# Altium schematic symbol library 74xx.SchLib: 276 symbols (part 3 of 3)
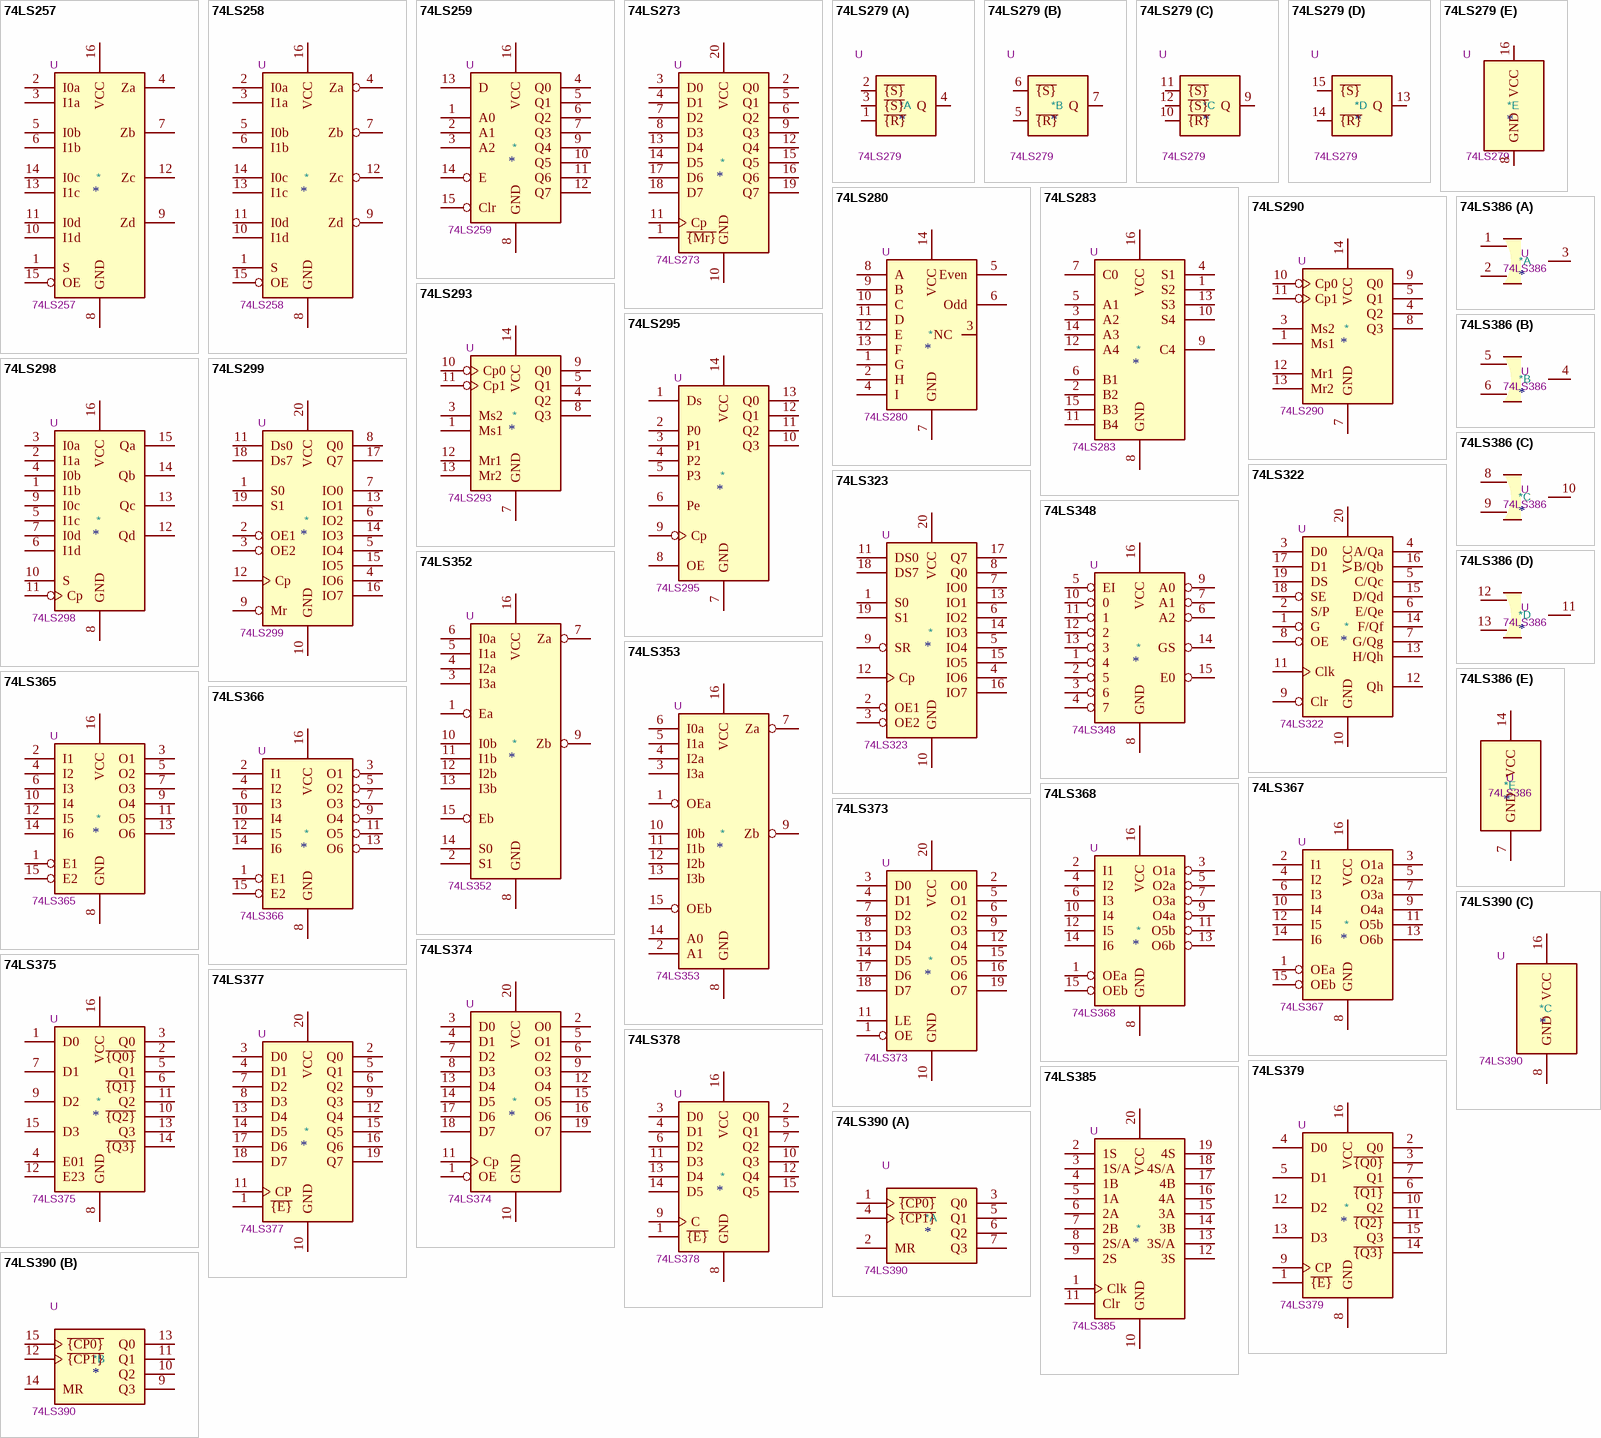
[diagram p16: symbols 74LS257 to 74LS390]

## 74LS375
designator *  value 74LS375  Reference: U
4-bit Latch; ki_keywords: TTL DFF DFF4 Latch; ki_fp_filters: DIP?16*; Datasheet: http://www.ti.com/lit/gpn/sn74LS375; Description_: 4-bit Latch
pins: 1 D0, 2 ~{{Q0}}, 3 Q0, 4 E01, 5 Q1, 6 ~{{Q1}}, 7 D1, 8 GND, 9 D2, 10 ~{{Q2}}, 11 Q2, 12 E23, 13 Q3, 14 ~{{Q3}}, 15 D3, 16 VCC

## 74LS377
designator *  value 74LS377  Reference: U
8-bit Register; ki_keywords: TTL REG DFF DFF8; ki_fp_filters: DIP?20*; Datasheet: http://www.ti.com/lit/gpn/sn74LS377; Description_: 8-bit Register
pins: 1 ~{{E}}, 2 Q0, 3 D0, 4 D1, 5 Q1, 6 Q2, 7 D2, 8 D3, 9 Q3, 10 GND, 11 CP, 12 Q4, 13 D4, 14 D5, 15 Q5, 16 Q6, 17 D6, 18 D7, 19 Q7, 20 VCC

## 74LS378
designator *  value 74LS378  Reference: U
6-bit Register; ki_keywords: TTL REG DFF DFF6; ki_fp_filters: DIP?16*; Datasheet: http://www.ti.com/lit/gpn/sn74LS378; Description_: 6-bit Register
pins: 1 ~{{E}}, 2 Q0, 3 D0, 4 D1, 5 Q1, 6 D2, 7 Q2, 8 GND, 9 C, 10 Q3, 11 D3, 12 Q4, 13 D4, 14 D5, 15 Q5, 16 VCC

## 74LS379
designator *  value 74LS379  Reference: U
4-bit Register; ki_keywords: TTL REG DFF DFF4; ki_fp_filters: DIP?16*; Datasheet: http://www.ti.com/lit/gpn/sn74LS379; Description_: 4-bit Register
pins: 1 ~{{E}}, 2 Q0, 3 ~{{Q0}}, 4 D0, 5 D1, 6 ~{{Q1}}, 7 Q1, 8 GND, 9 CP, 10 Q2, 11 ~{{Q2}}, 12 D2, 13 D3, 14 ~{{Q3}}, 15 Q3, 16 VCC

## 74LS385
designator *  value 74LS385  Reference: U
Quad serial Adder; ki_keywords: TTL ADD Arith ALU; ki_fp_filters: DIP?20*; Datasheet: http://www.ti.com/lit/gpn/sn74LS385; Description_: Quad serial Adder
pins: 1 Clk, 2 1S, 3 1S/A, 4 1B, 5 1A, 6 2A, 7 2B, 8 2S/A, 9 2S, 10 GND, 11 Clr, 12 3S, 13 3S/A, 14 3B, 15 3A, 16 4A, 17 4B, 18 4S/A, 19 4S, 20 VCC

## 74LS386
designator *  value 74LS386  Reference: U
Quad 2-input XOR; ki_keywords: TTL XOR2; ki_fp_filters: DIP*W7.62mm*; Datasheet: http://www.ti.com/lit/gpn/sn74LS386; Description_: Quad 2-input XOR
part A pins: 1, 2, 3
part B pins: 4, 5, 6
part C pins: 8, 9, 10
part D pins: 11, 12, 13
part E pins: 7 GND, 14 VCC

## 74LS390
designator *  value 74LS390  Reference: U
Dual BCD 4-bit counter; ki_keywords: TTL CNT CNT4; ki_fp_filters: DIP?16* SOIC*3.9x9.9mm*P1.27mm*; Datasheet: http://www.ti.com/lit/gpn/sn74LS390; Description_: Dual BCD 4-bit counter
part A pins: 1 ~{{CP0}}, 2 MR, 3 Q0, 4 ~{{CP1}}, 5 Q1, 6 Q2, 7 Q3
part B pins: 9 Q3, 10 Q2, 11 Q1, 12 ~{{CP1}}, 13 Q0, 14 MR, 15 ~{{CP0}}
part C pins: 8 GND, 16 VCC

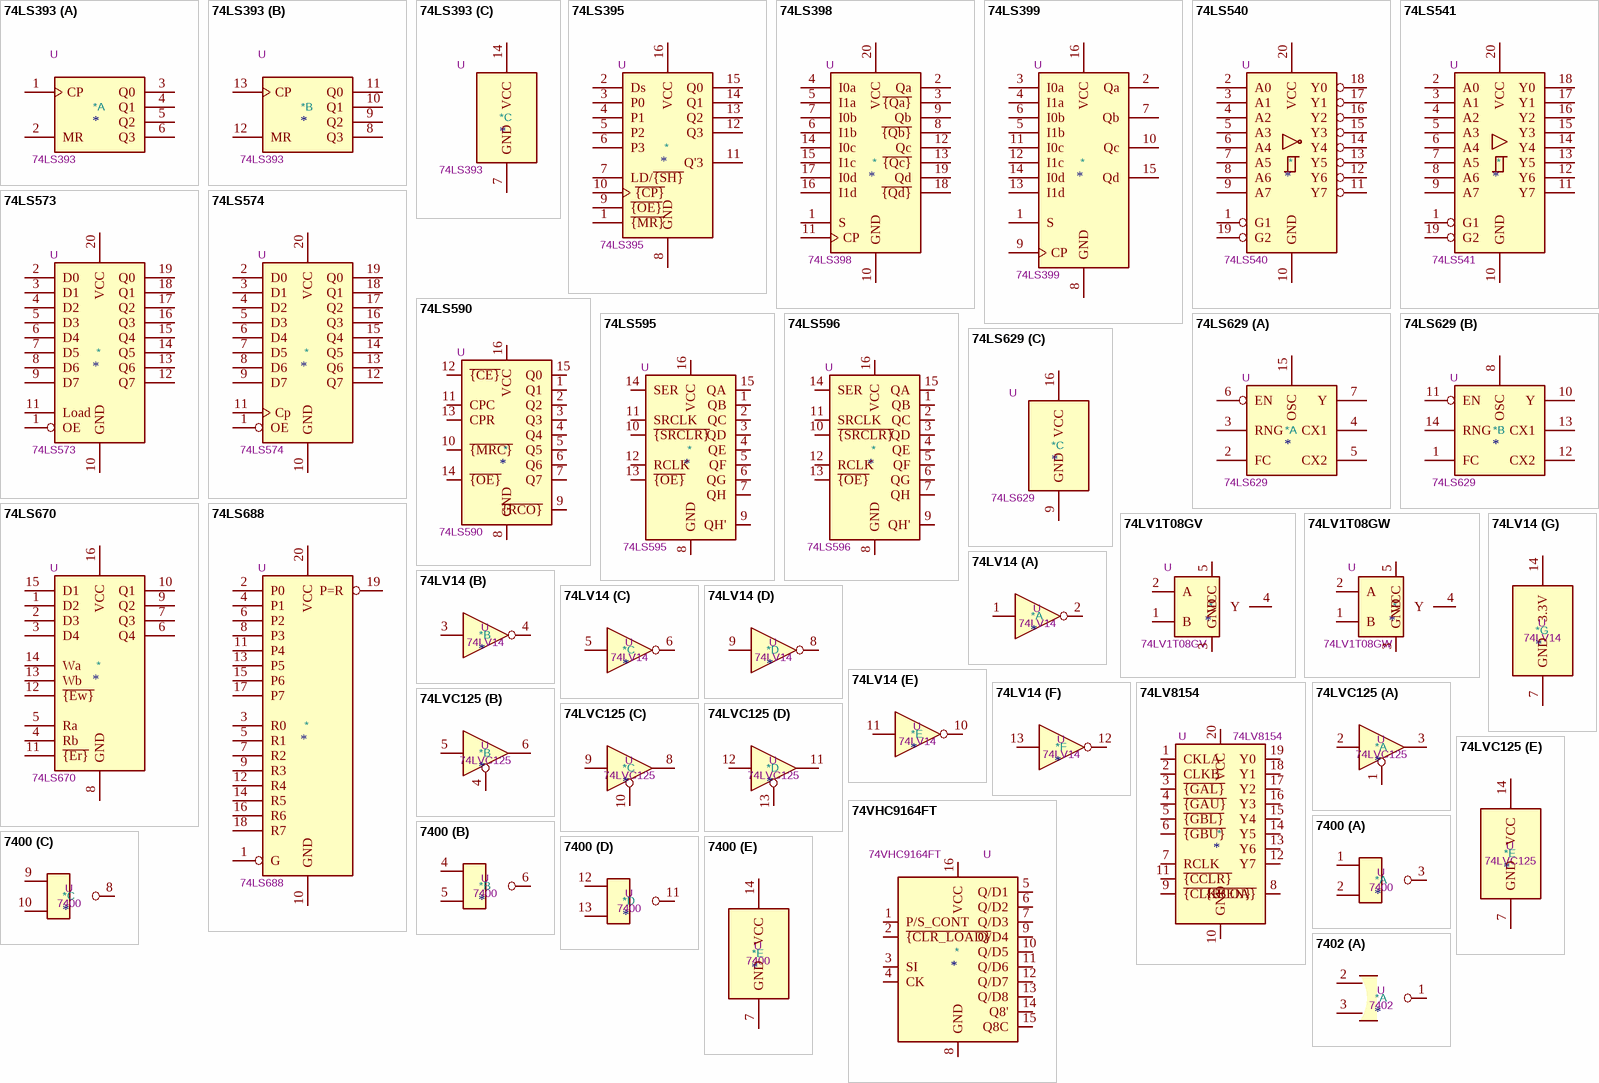
[diagram p13: symbols 74LS393 to 7402]

## 74LS393
designator *  value 74LS393  Reference: U
Dual BCD 4-bit counter; ki_keywords: TTL CNT CNT4; ki_fp_filters: DIP*W7.62mm*; Datasheet: 74xx\74LS393.pdf; Description_: Dual BCD 4-bit counter
part A pins: 1 CP, 2 MR, 3 Q0, 4 Q1, 5 Q2, 6 Q3
part B pins: 8 Q3, 9 Q2, 10 Q1, 11 Q0, 12 MR, 13 CP
part C pins: 7 GND, 14 VCC

## 74LS395
designator *  value 74LS395  Reference: U
4-bit universal shift register, 3-state outputs; ki_keywords: TTL SR SR4 REG 3State; ki_fp_filters: DIP?16*; Datasheet: http://www.ti.com/lit/gpn/sn74LS395; Description_: 4-bit universal shift register, 3-state outputs
pins: 1 ~{{MR}}, 2 Ds, 3 P0, 4 P1, 5 P2, 6 P3, 7 LD/~{{SH}}, 8 GND, 9 ~{{OE}}, 10 ~{{CP}}, 11 Q'3, 12 Q3, 13 Q2, 14 Q1, 15 Q0, 16 VCC

## 74LS398
designator *  value 74LS398  Reference: U
Quad 2 to 1 line Multiplexer, 3-state outputs; ki_keywords: TTL MUX MUX2 3State; ki_fp_filters: DIP?20*; Datasheet: http://www.ti.com/lit/gpn/sn74LS398; Description_: Quad 2 to 1 line Multiplexer, 3-state outputs
pins: 1 S, 2 Qa, 3 ~{{Qa}}, 4 I0a, 5 I1a, 6 I1b, 7 I0b, 8 ~{{Qb}}, 9 Qb, 10 GND, 11 CP, 12 Qc, 13 ~{{Qc}}, 14 I0c, 15 I1c, 16 I1d, 17 I0d, 18 ~{{Qd}}, 19 Qd, 20 VCC

## 74LS399
designator *  value 74LS399  Reference: U
Quad 2 to 1 line multiplexer with storage; ki_keywords: TTL MUX MUX2; ki_fp_filters: DIP?16*; Datasheet: http://www.ti.com/lit/gpn/sn74LS399; Description_: Quad 2 to 1 line multiplexer with storage
pins: 1 S, 2 Qa, 3 I0a, 4 I1a, 5 I1b, 6 I0b, 7 Qb, 8 GND, 9 CP, 10 Qc, 11 I0c, 12 I1c, 13 I1d, 14 I0d, 15 Qd, 16 VCC

## 74LS540
designator *  value 74LS540  Reference: U
8-bit Buffer/Line driver Inverter, 3-state outputs; ki_keywords: BUFFER BUS TTL 3State; ki_fp_filters: DIP?20*; Datasheet: http://www.ti.com/lit/gpn/sn74LS540; Description_: 8-bit Buffer/Line driver Inverter, 3-state outputs
pins: 1 G1, 2 A0, 3 A1, 4 A2, 5 A3, 6 A4, 7 A5, 8 A6, 9 A7, 10 GND, 11 Y7, 12 Y6, 13 Y5, 14 Y4, 15 Y3, 16 Y2, 17 Y1, 18 Y0, 19 G2, 20 VCC

## 74LS541
designator *  value 74LS541  Reference: U
8-bit Buffer/Line Driver 3-state outputs; ki_keywords: TTL BUFFER 3State BUS; ki_fp_filters: DIP?20*; Datasheet: http://www.ti.com/lit/gpn/sn74LS541; Description_: 8-bit Buffer/Line Driver 3-state outputs
pins: 1 G1, 2 A0, 3 A1, 4 A2, 5 A3, 6 A4, 7 A5, 8 A6, 9 A7, 10 GND, 11 Y7, 12 Y6, 13 Y5, 14 Y4, 15 Y3, 16 Y2, 17 Y1, 18 Y0, 19 G2, 20 VCC

## 74LS573
designator *  value 74LS573  Reference: U
8-bit Latch 3-state outputs; ki_keywords: TTL DFF DFF8 LATCH 3State; ki_fp_filters: DIP?20*; Datasheet: 74xx/74hc573.pdf; Description_: 8-bit Latch 3-state outputs
pins: 1 OE, 2 D0, 3 D1, 4 D2, 5 D3, 6 D4, 7 D5, 8 D6, 9 D7, 10 GND, 11 Load, 12 Q7, 13 Q6, 14 Q5, 15 Q4, 16 Q3, 17 Q2, 18 Q1, 19 Q0, 20 VCC

## 74LS574
designator *  value 74LS574  Reference: U
8-bit Register, 3-state outputs; ki_keywords: TTL REG DFF DFF8 3State; ki_fp_filters: DIP?20*; Datasheet: http://www.ti.com/lit/gpn/sn74LS574; Description_: 8-bit Register, 3-state outputs
pins: 1 OE, 2 D0, 3 D1, 4 D2, 5 D3, 6 D4, 7 D5, 8 D6, 9 D7, 10 GND, 11 Cp, 12 Q7, 13 Q6, 14 Q5, 15 Q4, 16 Q3, 17 Q2, 18 Q1, 19 Q0, 20 VCC

## 74LS590
designator *  value 74LS590  Reference: U
8-bit Binary Counter with Output Register 3-State Outputs, DIP-16/SOIC-16/SOIC-16W; ki_keywords: TTL Counter 3State; ki_fp_filters: DIP*W7.62mm* SOIC*3.9x9.9mm*P1.27mm* TSSOP*4.4x5mm*P0.65mm* SOIC*5.3x10.2mm*P1.27mm* SOIC*7.5x10.3mm*P1.27mm*; Datasheet: http://www.ti.com/lit/gpn/sn74ls590; Description_: 8-bit Binary Counter with Output Register 3-State Outputs, DIP-16/SOIC-16/SOIC-16W
pins: 1 Q1, 2 Q2, 3 Q3, 4 Q4, 5 Q5, 6 Q6, 7 Q7, 8 GND, 9 ~{{RCO}}, 10 ~{{MRC}}, 11 CPC, 12 ~{{CE}}, 13 CPR, 14 ~{{OE}}, 15 Q0, 16 VCC

## 74LS595
designator *  value 74LS595  Reference: U
8-bit serial in/out Shift Register 3-State Outputs; ki_keywords: TTL SR 3State; ki_fp_filters: DIP*W7.62mm* SOIC*3.9x9.9mm*P1.27mm* TSSOP*4.4x5mm*P0.65mm* SOIC*5.3x10.2mm*P1.27mm* SOIC*7.5x10.3mm*P1.27mm*; Datasheet: http://www.ti.com/lit/gpn/sn74ls595; Description_: 8-bit serial in/out Shift Register 3-State Outputs
pins: 1 QB, 2 QC, 3 QD, 4 QE, 5 QF, 6 QG, 7 QH, 8 GND, 9 QH', 10 ~{{SRCLR}}, 11 SRCLK, 12 RCLK, 13 ~{{OE}}, 14 SER, 15 QA, 16 VCC

## 74LS596
designator *  value 74LS596  Reference: U
8-bit serial in/out Shift Register Open Collector outputs; ki_keywords: HCMOS SR OpenCollector; ki_fp_filters: DIP*W7.62mm* SOIC*3.9x9.9mm*P1.27mm* TSSOP*4.4x5mm*P0.65mm* SOIC*5.3x10.2mm*P1.27mm* SOIC*7.5x10.3mm*P1.27mm*; Datasheet: http://www.ti.com/lit/gpn/sn74ls596; Description_: 8-bit serial in/out Shift Register Open Collector outputs
pins: 1 QB, 2 QC, 3 QD, 4 QE, 5 QF, 6 QG, 7 QH, 8 GND, 9 QH', 10 ~{{SRCLR}}, 11 SRCLK, 12 RCLK, 13 ~{{OE}}, 14 SER, 15 QA, 16 VCC

## 74LS629
designator *  value 74LS629  Reference: U
dual voltage-controlled oscillator, enable control, range control; ki_keywords: VCO; ki_fp_filters: DIP?16*; Datasheet: http://www.ti.com/lit/gpn/sn74LS629; Description_: dual voltage-controlled oscillator, enable control, range control
part A pins: 2 FC, 3 RNG, 4 CX1, 5 CX2, 6 EN, 7 Y, 15 OSC
part B pins: 1 FC, 8 OSC, 10 Y, 11 EN, 12 CX2, 13 CX1, 14 RNG
part C pins: 9 GND, 16 VCC

## 74LS670
designator *  value 74LS670  Reference: U
4 x 4 Register Files 3-State Outputs; ki_keywords: TTL Register 3State; ki_fp_filters: DIP?16*; Datasheet: http://www.ti.com/lit/gpn/sn74LS670; Description_: 4 x 4 Register Files 3-State Outputs
pins: 1 D2, 2 D3, 3 D4, 4 Rb, 5 Ra, 6 Q4, 7 Q3, 8 GND, 9 Q2, 10 Q1, 11 ~{{Er}}, 12 ~{{Ew}}, 13 Wb, 14 Wa, 15 D1, 16 VCC

## 74LS688
designator *  value 74LS688  Reference: U
8-bit magnitude comparator; ki_keywords: TTL DECOD Arith; ki_fp_filters: DIP?20* SOIC?20* SO?20* TSSOP?20*; Datasheet: http://www.ti.com/lit/gpn/sn74LS688; Description_: 8-bit magnitude comparator
pins: 1 G, 2 P0, 3 R0, 4 P1, 5 R1, 6 P2, 7 R2, 8 P3, 9 R3, 10 GND, 11 P4, 12 R4, 13 P5, 14 R5, 15 P6, 16 R6, 17 P7, 18 R7, 19 P=R, 20 VCC

## 74LV1T08GV
designator *  value 74LV1T08GV  Reference: U
2-input single supply translating AND gate, SC-74A-5; ki_keywords: Single AND Gate voltage translator; ki_fp_filters: *SC*74A*; Footprint: Package_TO_SOT_SMD:SC-74A-5_1.55x2.9mm_P0.95mm; Datasheet: https://assets.nexperia.com/documents/data-sheet/74LV1T08.pdf; Description_: 2-input single supply translating AND gate, SC-74A-5
pins: 1 B, 2 A, 3 GND, 4 Y, 5 VCC

## 74LV1T08GW
designator *  value 74LV1T08GW  Reference: U
2-input single supply translating AND gate, SOT-353; ki_keywords: Single AND Gate voltage translator; ki_fp_filters: SOT*353*; Footprint: Package_TO_SOT_SMD:SOT-353_SC-70-5; Datasheet: https://assets.nexperia.com/documents/data-sheet/74LV1T08.pdf; Description_: 2-input single supply translating AND gate, SOT-353
pins: 1 B, 2 A, 3 GND, 4 Y, 5 VCC

## 74LV14
designator *  value 74LV14  Reference: U
Hex Inverter; ki_keywords: TTL not inv; ki_fp_filters: DIP*W7.62mm*; Datasheet: http://www.ti.com/lit/gpn/sn74LV14; Description_: Hex Inverter
part A pins: 1, 2
part B pins: 3, 4
part C pins: 5, 6
part D pins: 8, 9
part E pins: 10, 11
part F pins: 12, 13
part G pins: 7 GND, 14 3.3V

## 74LV8154
designator *  value 74LV8154  Reference: U
Dual 16-bit binary counter; ki_keywords: counter binary; ki_fp_filters: TSSOP*4.4x6.5mm*P0.65mm* DIP*W7.62mm*; Datasheet: http://www.ti.com/lit/ds/symlink/sn74lv8154.pdf; Description_: Dual 16-bit binary counter
pins: 1 CKLA, 2 CLKB, 3 ~{{GAL}}, 4 ~{{GAU}}, 5 ~{{GBL}}, 6 ~{{GBU}}, 7 RCLK, 8 ~{{RCOA}}, 9 ~{{CLKBEN}}, 10 GND, 11 ~{{CCLR}}, 12 Y7, 13 Y6, 14 Y5, 15 Y4, 16 Y3, 17 Y2, 18 Y1, 19 Y0, 20 VCC

## 74LVC125
designator *  value 74LVC125  Reference: U
Quad buffer 3-State outputs; ki_keywords: TTL buffer 3State; ki_fp_filters: DIP*W7.62mm*; Datasheet: http://www.ti.com/lit/gpn/sn74LVC125; Description_: Quad buffer 3-State outputs
part A pins: 1, 2, 3
part B pins: 4, 5, 6
part C pins: 8, 9, 10
part D pins: 11, 12, 13
part E pins: 7 GND, 14 VCC

## 74VHC9164FT
designator *  value 74VHC9164FT  Reference: U
8-bit Universal Shift Register, 2V to 5.5V, TSSOP-16; ki_keywords: shift register universal serial parallel; ki_fp_filters: TSSOP*4.4x5mm*P0.65mm*; Footprint: Package_SO:TSSOP-16_4.4x5mm_P0.65mm; Datasheet: https://toshiba.semicon-storage.com/info/docget.jsp?did=15655&prodName=74VHC9164FT; Description_: 8-bit Universal Shift Register, 2V to 5.5V, TSSOP-16
pins: 1 P/S_CONT, 2 ~{{CLR_LOAD}}, 3 SI, 4 CK, 5 Q/D1, 6 Q/D2, 7 Q/D3, 8 GND, 9 Q/D4, 10 Q/D5, 11 Q/D6, 12 Q/D7, 13 Q/D8, 14 Q8', 15 Q8C, 16 VCC

## 7400
designator *  value 7400  Reference: U
quad 2-input NAND gate; ki_keywords: TTL nand 2-input; ki_fp_filters: DIP*W7.62mm* SO14*; Datasheet: http://www.ti.com/lit/gpn/sn7400; Description_: quad 2-input NAND gate
part A pins: 1, 2, 3
part B pins: 4, 5, 6
part C pins: 8, 9, 10
part D pins: 11, 12, 13
part E pins: 7 GND, 14 VCC
1 alternate drawing of the same symbol

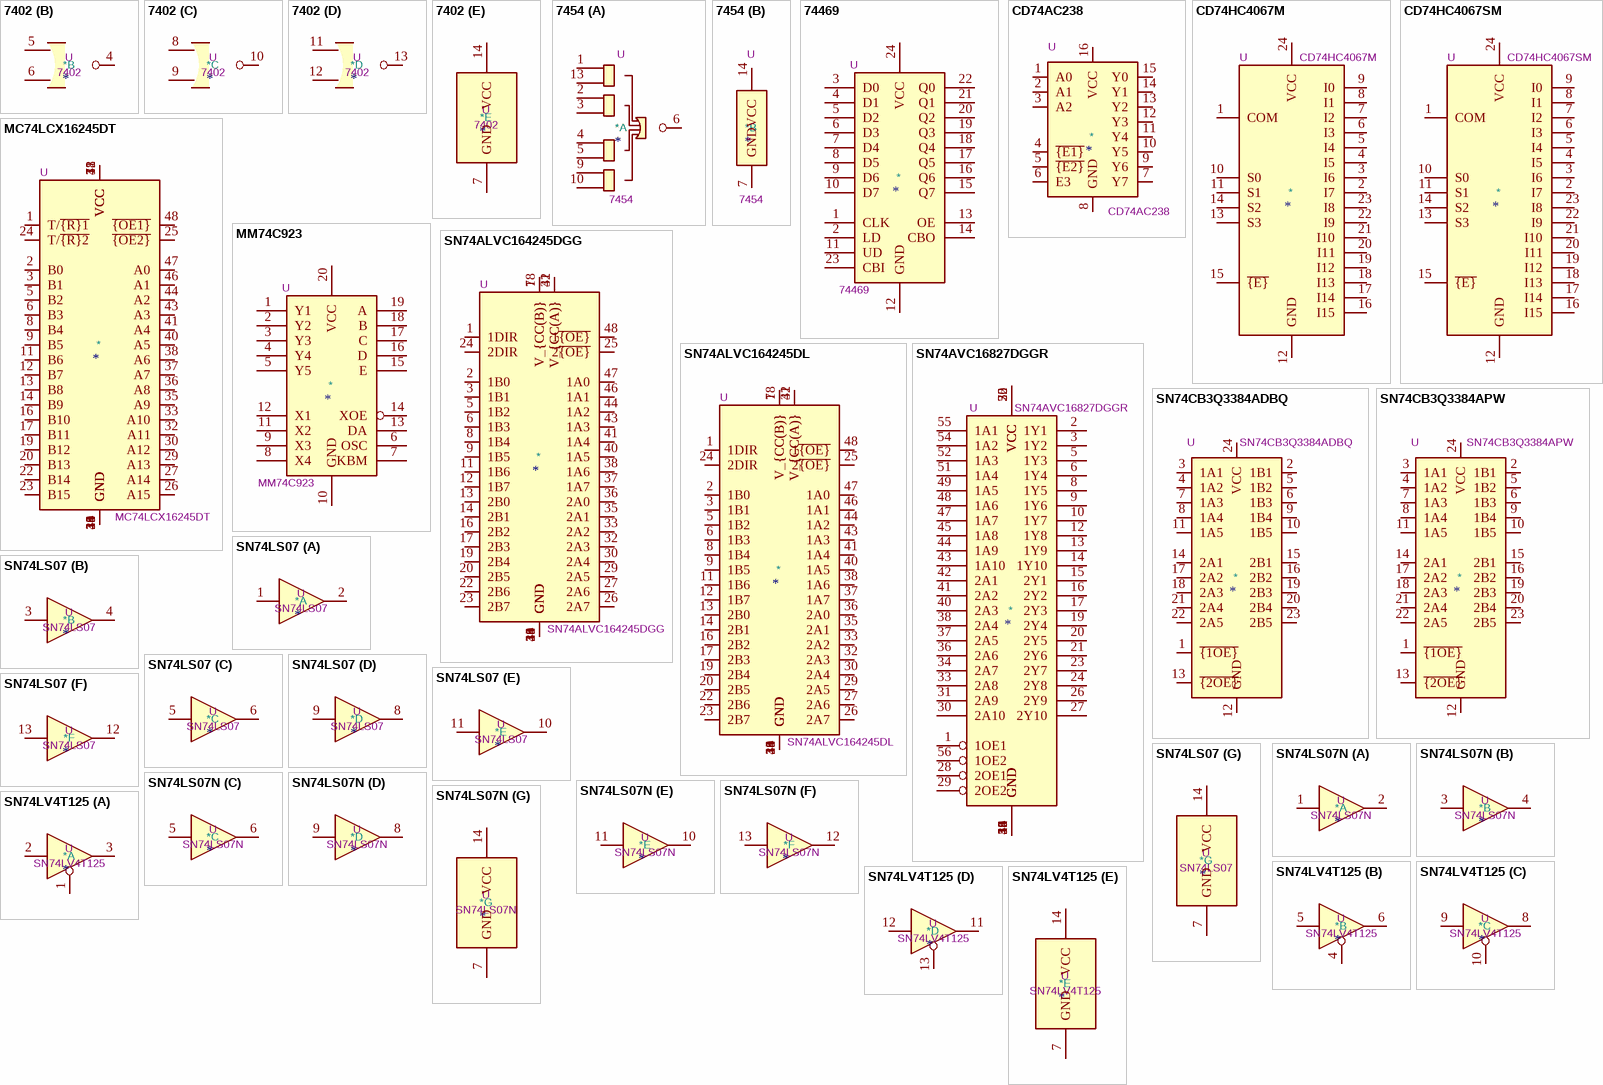
[diagram p14: symbols 7402 to SN74LV4T125]

## 7402
designator *  value 7402  Reference: U
quad 2-input NOR gate; ki_keywords: TTL Nor2; ki_fp_filters: SO14* DIP*W7.62mm*; Datasheet: http://www.ti.com/lit/gpn/sn7402; Description_: quad 2-input NOR gate
part A pins: 1, 2, 3
part B pins: 4, 5, 6
part C pins: 8, 9, 10
part D pins: 11, 12, 13
part E pins: 7 GND, 14 VCC
1 alternate drawing of the same symbol

## 7454
designator *  value 7454  Reference: U
And-Nor (Y = /(AB + CD + EF + GH) ), DIP-14; ki_keywords: TTL ANDNOR; ki_fp_filters: DIP*W7.62mm*; Datasheet: https://www.ti.com/lit/ds/symlink/sn54ls54.pdf; Description_: And-Nor (Y = /(AB + CD + EF + GH) ), DIP-14
part A pins: 1, 2, 3, 4, 5, 6, 9, 10, 13
part B pins: 7 GND, 14 VCC

## 74469
designator *  value 74469  Reference: U
8-bit synchronous up/down counter, parallel load and hold capability (obsolete); ki_fp_filters: DIP?24*; Datasheet: http://www.ti.com/lit/gpn/sn74469; Description_: 8-bit synchronous up/down counter, parallel load and hold capability (obsolete); ki_keywords: counter
pins: 1 CLK, 2 LD, 3 D0, 4 D1, 5 D2, 6 D3, 7 D4, 8 D5, 9 D6, 10 D7, 11 UD, 12 GND, 13 OE, 14 CBO, 15 Q7, 16 Q6, 17 Q5, 18 Q4, 19 Q3, 20 Q2, 21 Q1, 22 Q0, 23 CBI, 24 VCC

## CD74AC238
designator *  value CD74AC238  Reference: U
3-to-8 line decoder/multiplexer, SOIC-16; ki_keywords: demux; ki_fp_filters: SOIC*3.9x9.9mm*P1.27mm*; Datasheet: https://www.ti.com/lit/ds/symlink/cd74ac238.pdf; Description_: 3-to-8 line decoder/multiplexer, SOIC-16
pins: 1 A0, 2 A1, 3 A2, 4 ~{{E1}}, 5 ~{{E2}}, 6 E3, 7 Y7, 8 GND, 9 Y6, 10 Y5, 11 Y4, 12 Y3, 13 Y2, 14 Y1, 15 Y0, 16 VCC

## CD74HC4067M
designator *  value CD74HC4067M  Reference: U
High-Speed CMOS Logic 16-Channel Analog Multiplexer/Demultiplexer, SOIC-24; ki_keywords: multiplexer demultiplexer mux demux; ki_fp_filters: SOIC*W*7.5x15.4mm*P1.27mm*; Footprint: Package_SO:SOIC-24W_7.5x15.4mm_P1.27mm; Datasheet: http://www.ti.com/lit/ds/symlink/cd74hc4067.pdf; Description_: High-Speed CMOS Logic 16-Channel Analog Multiplexer/Demultiplexer, SOIC-24
pins: 1 COM, 2 I7, 3 I6, 4 I5, 5 I4, 6 I3, 7 I2, 8 I1, 9 I0, 10 S0, 11 S1, 12 GND, 13 S3, 14 S2, 15 ~{{E}}, 16 I15, 17 I14, 18 I13, 19 I12, 20 I11, 21 I10, 22 I9, 23 I8, 24 VCC

## CD74HC4067SM
designator *  value CD74HC4067SM  Reference: U
High-Speed CMOS Logic 16-Channel Analog Multiplexer/Demultiplexer, SSOP-24; ki_keywords: multiplexer demultiplexer mux demux; ki_fp_filters: SSOP*5.3x8.2mm*P0.65mm*; Footprint: Package_SO:SSOP-24_5.3x8.2mm_P0.65mm; Datasheet: http://www.ti.com/lit/ds/symlink/cd74hc4067.pdf; Description_: High-Speed CMOS Logic 16-Channel Analog Multiplexer/Demultiplexer, SSOP-24
pins: 1 COM, 2 I7, 3 I6, 4 I5, 5 I4, 6 I3, 7 I2, 8 I1, 9 I0, 10 S0, 11 S1, 12 GND, 13 S3, 14 S2, 15 ~{{E}}, 16 I15, 17 I14, 18 I13, 19 I12, 20 I11, 21 I10, 22 I9, 23 I8, 24 VCC

## MC74LCX16245DT
designator *  value MC74LCX16245DT  Reference: U
Low Voltage 16-Bit Bidirectional Transceiver with 5V Tolerant Inputs and Outputs, TSSOP-48; ki_fp_filters: TSSOP*6.1x12.5mm*P0.5mm*; Footprint: Package_SO:TSSOP-48_6.1x12.5mm_P0.5mm; Datasheet: https://www.onsemi.com/pdf/datasheet/mc74lcx16245-d.pdf; Description_: Low Voltage 16-Bit Bidirectional Transceiver with 5V Tolerant Inputs and Outputs, TSSOP-48; ki_keywords: transceiver
pins: 1 T/~{{R}1}, 2 B0, 3 B1, 4 GND, 5 B2, 6 B3, 7 VCC, 8 B4, 9 B5, 10 GND, 11 B6, 12 B7, 13 B8, 14 B9, 15 GND, 16 B10, 17 B11, 18 VCC, 19 B12, 20 B13, 21 GND, 22 B14, 23 B15, 24 T/~{{R}2}, 25 ~{{OE2}}, 26 A15, 27 A14, 28 GND, 29 A13, 30 A12, 31 VCC, 32 A11, 33 A10, 34 GND, 35 A9, 36 A8, 37 A7, 38 A6, 39 GND, 40 A5, 41 A4, 42 VCC, 43 A3, 44 A2, 45 GND, 46 A1, 47 A0, 48 ~{{OE1}}

## MM74C923
designator *  value MM74C923  Reference: U
20-key encoder; ki_fp_filters: DIP?20*; Datasheet: http://www.ti.com/lit/gpn/snMM74C923; Description_: 20-key encoder; ki_keywords: encoder
pins: 1 Y1, 2 Y2, 3 Y3, 4 Y4, 5 Y5, 6 OSC, 7 KBM, 8 X4, 9 X3, 10 GND, 11 X2, 12 X1, 13 DA, 14 XOE, 15 E, 16 D, 17 C, 18 B, 19 A, 20 VCC

## SN74ALVC164245DGG
designator *  value SN74ALVC164245DGG  Reference: U
16-Bit 2.5V to 3.3V or 3.3V to 5V Level-Shifting Transceiver With 3-State Outputs, TSSOP-48; ki_fp_filters: TSSOP*6.1x12.5mm*P0.5mm*; Footprint: Package_SO:TSSOP-48_6.1x12.5mm_P0.5mm; Datasheet: https://www.ti.com/lit/ds/symlink/sn74alvc164245.pdf; Description_: 16-Bit 2.5V to 3.3V or 3.3V to 5V Level-Shifting Transceiver With 3-State Outputs, TSSOP-48; ki_keywords: transceiver
pins: 1 1DIR, 2 1B0, 3 1B1, 4 GND, 5 1B2, 6 1B3, 7 V_{CC(B)}, 8 1B4, 9 1B5, 10 GND, 11 1B6, 12 1B7, 13 2B0, 14 2B1, 15 GND, 16 2B2, 17 2B3, 18 V_{CC(B)}, 19 2B4, 20 2B5, 21 GND, 22 2B6, 23 2B7, 24 2DIR, 25 2~{{OE}}, 26 2A7, 27 2A6, 28 GND, 29 2A5, 30 2A4, 31 V_{CC(A)}, 32 2A3, 33 2A2, 34 GND, 35 2A1, 36 2A0, 37 1A7, 38 1A6, 39 GND, 40 1A5, 41 1A4, 42 V_{CC(A)}, 43 1A3, 44 1A2, 45 GND, 46 1A1, 47 1A0, 48 1~{{OE}}

## SN74ALVC164245DL
designator *  value SN74ALVC164245DL  Reference: U
16-Bit 2.5V to 3.3V or 3.3V to 5V Level-Shifting Transceiver With 3-State Outputs, SSOP-48; ki_fp_filters: SSOP*7.5x15.9mm*P0.635mm*; Footprint: Package_SO:SSOP-48_7.5x15.9mm_P0.635mm; Datasheet: https://www.ti.com/lit/ds/symlink/sn74alvc164245.pdf; Description_: 16-Bit 2.5V to 3.3V or 3.3V to 5V Level-Shifting Transceiver With 3-State Outputs, SSOP-48; ki_keywords: transceiver
pins: 1 1DIR, 2 1B0, 3 1B1, 4 GND, 5 1B2, 6 1B3, 7 V_{CC(B)}, 8 1B4, 9 1B5, 10 GND, 11 1B6, 12 1B7, 13 2B0, 14 2B1, 15 GND, 16 2B2, 17 2B3, 18 V_{CC(B)}, 19 2B4, 20 2B5, 21 GND, 22 2B6, 23 2B7, 24 2DIR, 25 2~{{OE}}, 26 2A7, 27 2A6, 28 GND, 29 2A5, 30 2A4, 31 V_{CC(A)}, 32 2A3, 33 2A2, 34 GND, 35 2A1, 36 2A0, 37 1A7, 38 1A6, 39 GND, 40 1A5, 41 1A4, 42 V_{CC(A)}, 43 1A3, 44 1A2, 45 GND, 46 1A1, 47 1A0, 48 1~{{OE}}

## SN74AVC16827DGGR
designator *  value SN74AVC16827DGGR  Reference: U
20-Bit Buffer/Driver With 3-State Outputs; ki_keywords: Buffer Driver 3-State; ki_fp_filters: TSSOP*6.1x14mm*P0.5mm*; Footprint: Package_SO:TSSOP-56_6.1x14mm_P0.5mm; Datasheet: http://www.ti.com/lit/ds/symlink/sn74avc16827.pdf; Description_: 20-Bit Buffer/Driver With 3-State Outputs
pins: 1 1OE1, 2 1Y1, 3 1Y2, 4 GND, 5 1Y3, 6 1Y4, 7 VCC, 8 1Y5, 9 1Y6, 10 1Y7, 11 GND, 12 1Y8, 13 1Y9, 14 1Y10, 15 2Y1, 16 2Y2, 17 2Y3, 18 GND, 19 2Y4, 20 2Y5, 21 2Y6, 22 VCC, 23 2Y7, 24 2Y8, 25 GND, 26 2Y9, 27 2Y10, 28 2OE1, 29 2OE2, 30 2A10, 31 2A9, 32 GND, 33 2A8, 34 2A7, 35 VCC, 36 2A6, 37 2A5, 38 2A4, 39 GND, 40 2A3, 41 2A2, 42 2A1, 43 1A10, 44 1A9, 45 1A8, 46 GND, 47 1A7, 48 1A6, 49 1A5, 50 VCC, 51 1A4, 52 1A3, 53 GND, 54 1A2, 55 1A1, 56 1OE2

## SN74CB3Q3384ADBQ
designator *  value SN74CB3Q3384ADBQ  Reference: U
FET Bus Switch, 10bit, 500MHz, 3.3V, SSOP-24; ki_keywords: low voltage high bandwidth; ki_fp_filters: SSOP*3.9x8.7mm*P0.635mm*; Footprint: Package_SO:SSOP-24_3.9x8.7mm_P0.635mm; Datasheet: https://www.ti.com/lit/ds/symlink/sn74cb3q3384a.pdf?ts=1634790233466; Description_: FET Bus Switch, 10bit, 500MHz, 3.3V, SSOP-24
pins: 1 ~{{1OE}}, 2 1B1, 3 1A1, 4 1A2, 5 1B2, 6 1B3, 7 1A3, 8 1A4, 9 1B4, 10 1B5, 11 1A5, 12 GND, 13 ~{{2OE}}, 14 2A1, 15 2B1, 16 2B2, 17 2A2, 18 2A3, 19 2B3, 20 2B4, 21 2A4, 22 2A5, 23 2B5, 24 VCC

## SN74CB3Q3384APW
designator *  value SN74CB3Q3384APW  Reference: U
FET Bus Switch, 10bit, 500MHz, 3.3V, TSSOP-24; ki_keywords: low voltage high bandwidth; ki_fp_filters: TSSOP*4.4x7.8mm*P0.65mm*; Footprint: Package_SO:TSSOP-24_4.4x7.8mm_P0.65mm; Datasheet: https://www.ti.com/lit/ds/symlink/sn74cb3q3384a.pdf?ts=1634790233466; Description_: FET Bus Switch, 10bit, 500MHz, 3.3V, TSSOP-24
pins: 1 ~{{1OE}}, 2 1B1, 3 1A1, 4 1A2, 5 1B2, 6 1B3, 7 1A3, 8 1A4, 9 1B4, 10 1B5, 11 1A5, 12 GND, 13 ~{{2OE}}, 14 2A1, 15 2B1, 16 2B2, 17 2A2, 18 2A3, 19 2B3, 20 2B4, 21 2A4, 22 2A5, 23 2B5, 24 VCC

## SN74LS07
designator *  value SN74LS07  Reference: U
Hex Buffers and Drivers With Open Collector High Voltage Outputs; ki_keywords: TTL hex buffer OpenCol; ki_fp_filters: SOIC*3.9x8.7mm*P1.27mm* TSSOP*4.4x5mm*P0.65mm* DIP*W7.62mm*; Datasheet: www.ti.com/lit/ds/symlink/sn74ls07.pdf; Description_: Hex Buffers and Drivers With Open Collector High Voltage Outputs
part A pins: 1, 2
part B pins: 3, 4
part C pins: 5, 6
part D pins: 8, 9
part E pins: 10, 11
part F pins: 12, 13
part G pins: 7 GND, 14 VCC

## SN74LS07N
designator *  value SN74LS07N  Reference: U
Hex Buffers and Drivers With Open Collector High Voltage Outputs; ki_keywords: TTL hex buffer OpenCol; ki_fp_filters: SOIC*3.9x8.7mm*P1.27mm* TSSOP*4.4x5mm*P0.65mm* DIP*W7.62mm*; Datasheet: www.ti.com/lit/ds/symlink/sn74ls07.pdf; Description_: Hex Buffers and Drivers With Open Collector High Voltage Outputs
part A pins: 1, 2
part B pins: 3, 4
part C pins: 5, 6
part D pins: 8, 9
part E pins: 10, 11
part F pins: 12, 13
part G pins: 7 GND, 14 VCC

## SN74LV4T125
designator *  value SN74LV4T125  Reference: U
Single Supply Logic Level Translator Quad Buffer with 3-State Outputs; ki_keywords: 3State CMOS shifter translator; ki_fp_filters: DIP*W7.62mm*; Datasheet: https://www.ti.com/lit/ds/symlink/sn74lv4t125.pdf; Description_: Single Supply Logic Level Translator Quad Buffer with 3-State Outputs
part A pins: 1, 2, 3
part B pins: 4, 5, 6
part C pins: 8, 9, 10
part D pins: 11, 12, 13
part E pins: 7 GND, 14 VCC